# Altium schematic symbol library LPEDT_Parts.SchLib: 54 symbols (part 1 of 2)
Pins are listed as number, name and electrical type; pins without a type are passive.

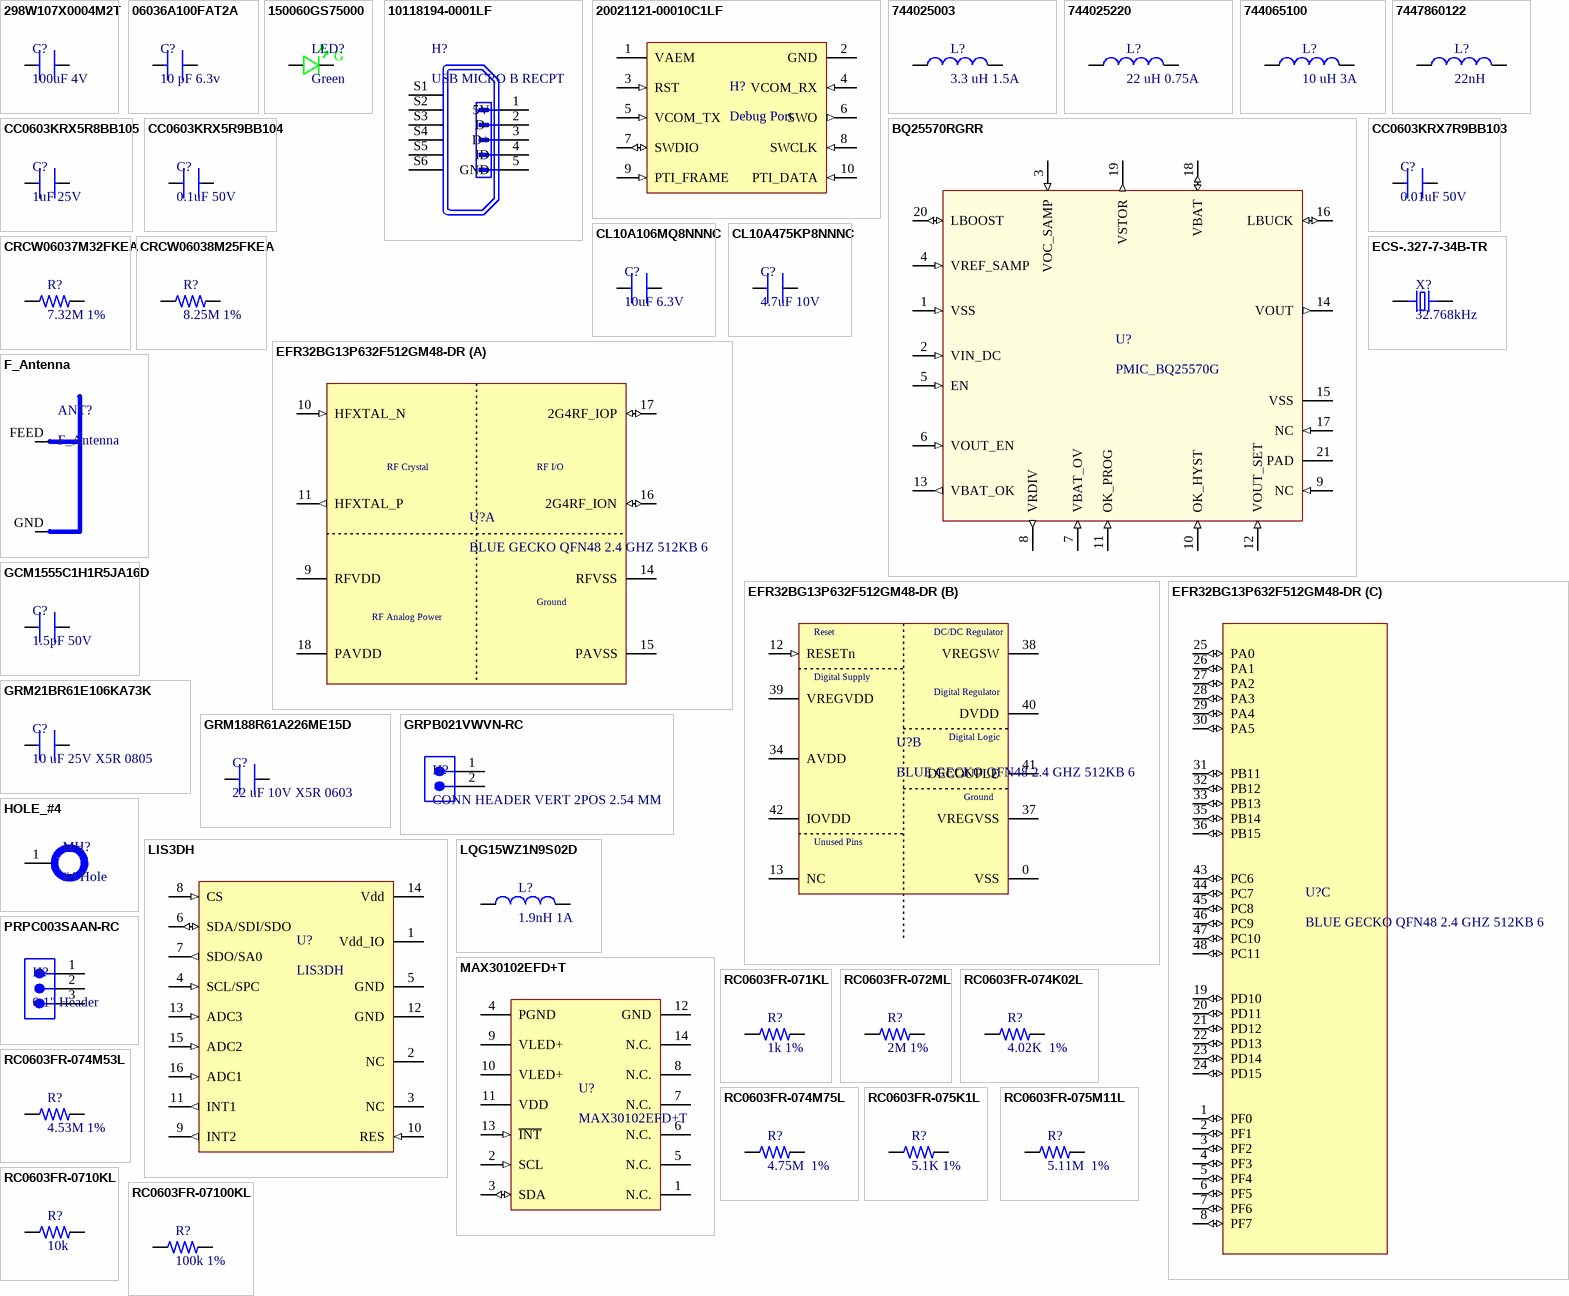
[diagram p0: symbols 298W107X0004M2T to RC0603FR-07100KL]

## 298W107X0004M2T
designator C?, comment 100uF 4V
CAP TANT 100uF / 4V 0603; Manufacturer: Vishay Sprague; Manufacturer Part Number: 298W107X0004M2T; Manufacturer Series: 298W; Dielectric Material: Tantalum; Polarity: Polarized; ESR (Equivalent Series Resistance): 15R; Leakage Current: 110uA; Tolerance  (fill in as +-): 20%; Ripple Current: 41mA; Tan Delta: 0.6; Supplier: Digi-Key; Supplier Part Number: 718-2216-1-ND; RoHS: Yes; Category: Tantalum Capacitors; Stock: 3192; Pricing: 1=1.61, 10=1.273, 50=1.103, 100=0.9544, 500=0.72114, 1000=0.6363 (USD); Mounting Technology: Surface Mount; Pins: 2; Package Shape: Rectangular; Case/Package: 0603; Terminal Finish: Tin; Min Operating Temperature: -55°C; Max Operating Temperature: 125°C; JESD-609 Code: e3; Value: 100uF; Capacitor Type: Tantalum; Package Style: SMTMeter; Packaging: Tape and Reel; Tolerance (fill in as +-): 20%; Rated DC Voltage (URdc): 4V; Series: 298W; Termination: Wraparound; Length: 1.6mm; Width: 0.85mm; Height: 0.9mm; Reach SVHC Compliant: Yes; RoHS Compliant: Yes; ComponentLink1URL: https://datasheet.ciiva.com:443/pdfs/VipMasterIC/IC/VISH/VISH-S-A0008609316/VISH-S-A0008609316-1.pdf?src-supplier=IHS+Markit; ComponentLink1Description: https://datasheet.ciiva.com:443/pdfs/VipMasterIC/IC/VISH/VISH-S-A0008609316/VISH-S-A0008609316-1.pdf?src-supplier=IHS+Markit; ComponentLink2URL: http://www.vishay.com/docs/40169/typperfchar298dwtrl8.pdf?src-supplier=Digi-Key; ComponentLink2Description: http://www.vishay.com/docs/40169/typperfchar298dwtrl8.pdf?src-supplier=Digi-Key; ComponentLink3URL: http://www.vishay.com/docs/40065/298d298w.pdf?src-supplier=Digi-Key; ComponentLink3Description: http://www.vishay.com/docs/40065/298d298w.pdf?src-supplier=Digi-Key
footprint CAP_0603_1MM (Chip Capacitor, 2-Leads, Body 1.60x0.80mm, IPC Medium Density)
pins: 1, 2

## 06036A100FAT2A
designator C?, comment 10 pF 6.3v
CAP CER 10pF 6.3V 0603; Manufacturer: Kyocera AVX; Manufacturer Part Number: 06036A100FAT2A; Tolerance: 1%; Dielectric: C0G; Supplier: Digi-Key; Supplier Part Number: 478-06036A100FAT2ACT-ND; RoHS: Yes; Category: Ceramic Capacitors; Stock: 26845; Pricing: 1=0.16, 10=0.112, 50=0.0636, 100=0.0526, 500=0.0369, 1000=0.03054 (USD); Mounting Technology: Surface Mount; Case/Package: 0603; Min Operating Temperature: -55°C; Max Operating Temperature: 125°C; Value: 10pF; Package Quantity: 4000; Packaging: Tape and Reel; Voltage Rating (DC): 6.3V; Construction: Flat; Length: 1.6mm; Depth: 0.81mm; RoHS Compliant: Yes; ComponentLink1URL: http://www.mouser.com/ds/2/40/C0GNP0-Dielectric-951274.pdf?src-supplier=Mouser; ComponentLink1Description: http://www.mouser.com/ds/2/40/C0GNP0-Dielectric-951274.pdf?src-supplier=Mouser
footprint CAP_0603_1MM (Chip Capacitor, 2-Leads, Body 1.60x0.80mm, IPC Medium Density)
pins: 1, 2

## 150060GS75000
designator LED?, comment Green
LED, 0603, GREEN, 430MCD, 520NM; Manufacturer: Wurth Electronics; Manufacturer Part Number: 150060GS75000; Dynamic Catalog: 0603 Rectangle with Flat Top Chip LEDs; 3D Model: SMCW_0603.igs / SMCW_0603.stp / SMCW_0603.wrl; Wavelength - Peak: 515nm; Voltage - Forward (Vf) (Typ): 3.2V; Current - Test: 20mA; Viewing Angle: 140°; Lens Type: Clear; Lens Style/Size: Rectangle with Flat Top, 1.1mm x 0.7mm; Other Names: 732-4971-2; Supplier 1: Digi-Key; Stock 1: 34964; Pricing 1: 1=0.14, 50=0.129, 100=0.11, 500=0.095 (USD); Standard Package: 4,000; Category: Optoelectronics; Family: LED Indication - Discrete; Series: WL-SMCW; Packaging: Tape & Reel (TR); Color: Green; Wavelength - Dominant: 520nm; Millicandela Rating: 430mcd; Package / Case: 0603 (1608 Metric); Size / Dimension: 1.60mm L x 0.80mm W; Height: 0.70mm; Mounting Type: Surface Mount; Online Catalog: 0603 Rectangle with Flat Top Chip LEDs; ComponentLink1URL: https://katalog.we-online.de/led/datasheet/150060GS75000.pdf?src-supplier=Digi-Key; ComponentLink1Description: https://katalog.we-online.de/led/datasheet/150060GS75000.pdf?src-supplier=Digi-Key; ComponentLink2URL: http://www.produktinfo.conrad.com/datenblaetter/750000-774999/759427-da-01-en-CHIPLED_0603_W_KL_GRUEN_150060GS75000.pdf?src-supplier=Conrad; ComponentLink2Description: http://www.produktinfo.conrad.com/datenblaetter/750000-774999/759427-da-01-en-CHIPLED_0603_W_KL_GRUEN_150060GS75000.pdf?src-supplier=Conrad; Supplier Part Number 1: 732-4971-1-ND
footprint LED_0603_GRN_WL-SMCW (SODFL, 2-Leads, Body 0.80x1.80mm, IPC Medium Density)
pins: A, C
text: G

## 10118194-0001LF
designator H?, comment USB MICRO B RECPT
USB - micro B USB 2.0 Receptacle Connector 5 Position Surface Mount, Right Angle; Through Hole; Manufacturer: Amphenol FCI; Manufacturer Part Number: 10118194-0001LF; Number of Terminals/Pins: 5; Current Rating: 1.8A; Connector Type: USB,Receptacle; Insulation Resistance: 1GR; Number of Ports: 1; Max Voltage Rating (AC): 100V; Pitch: 0.65mm; Supplier 1: Digi-Key; RoHS: Yes; Category: USB Connectors; Stock 1: 87961; Pricing 1: 1=0.48000, 10=0.45100, 25=0.38680, 50=0.32860, 100=0.31580, 250=0.28360, 500=0.27070 (USD); Mount: Surface Mount,Horizontal; Contact Material: Copper Alloy; Contact Plating: Gold; Housing Material: Polymer; Color: Black; Min Operating Temperature: -55°C; Max Operating Temperature: 85°C; Package Quantity: 9600; Packaging: Tape and Reel; Gender: Receptacle; Number of Contacts: 5; Termination: Solder; Orientation: Right Angle; Features: Shielded; Length: 8.05mm; Depth: 5mm; Radiation Hardening: No; Lead Free: Lead Free; Flammability Rating: UL94 V-0; ComponentLink1URL: https://datasheet.ciiva.com/4598/10118194ac-197217-4598807.pdf?src-supplier=Mouser; ComponentLink1Description: https://datasheet.ciiva.com/4598/10118194ac-197217-4598807.pdf?src-supplier=Mouser; ComponentLink2URL: https://datasheet.ciiva.com/26945/getdatasheetpartid-418619-26945695.pdf?src-supplier=Verical; ComponentLink2Description: https://datasheet.ciiva.com/26945/getdatasheetpartid-418619-26945695.pdf?src-supplier=Verical; ComponentLink3URL: https://datasheet.ciiva.com/851/10118194-851110.pdf?src-supplier=Digi-Key; ComponentLink3Description: https://datasheet.ciiva.com/851/10118194-851110.pdf?src-supplier=Digi-Key; ComponentLink4URL: https://datasheet.ciiva.com/851/10118194-851111.pdf?src-supplier=Digi-Key; ComponentLink4Description: https://datasheet.ciiva.com/851/10118194-851111.pdf?src-supplier=Digi-Key; Supplier Part Number 1: 609-4618-6-ND
footprint MICROUSB_AMPHENOL_10118194-0001LF
pins: 1 5V (power), 2 D-, 3 D+, 4 ID, 5 GND, S1, S2, S3, S4, S5, S6

## 20021121-00010C1LF
designator H?, comment Debug Port
CONN HEADER SMD 10POS 1.27MM. Connector Header Surface Mount 10 position 0.050"; Manufacturer: Amphenol ICC / FCI; Manufacturer Part Number: 20021121-00010C1LF; Supplier 1: Digi-Key; RoHS: No; Category: Headers and Wire Housings
footprint Amphenol_20021121_0
pins: 1 VAEM (power) "Target Advanced Energy Monitor Voltage Net", 2 GND (power) "Target Ground", 3 RST (in) "Target Reset (Active Low)", 4 VCOM_RX (in) "Target Pass-through UART/Virtual COM Port Receive", 5 VCOM_TX (in) "Target Pass-through UART/Virtual COM Port Transmit", 6 SWO (out) "Target Serial Wire Output", 7 SWDIO (io) "Target Serial Wire Data Input/Output", 8 SWCLK (in) "Target Serial Wire Clock", 9 PTI_FRAME (in) "Target Packet Trace Interface Frame Signal", 10 PTI_DATA (in) "Target Packet Trace Interface Data Signal"

## 744025003
designator L?, comment 3.3 uH 1.5A
IND FER 3.3uH 20% SMD; Manufacturer: Wurth Electronics; Manufacturer Part Number: 744025003; Core Material: Ferrite; Channels: 1; Case/Size Code: 1111; DC Resistance (DCR): 101mR; Inductor Application: POWER INDUCTOR; Inductor Type: GENERAL PURPOSE INDUCTOR; Self Resonant Frequency: 100MHz; Shape/Size Description: RECTANGULAR PACKAGE; Shielding: Shielded; Test Frequency: 100kHz; Package Height: 2.8mm; Supplier: Digi-Key; Supplier Part Number: 732-2614-1-ND; RoHS: Yes; Category: Fixed Inductors; Stock: 831; Pricing: 1=1.64, 10=1.578, 50=1.45, 100=1.205, 250=1.088 (USD); Pins: 2; Terminal Finish: Copper; Min Operating Temperature: -40°C; Max Operating Temperature: 125°C; Tolerance: 20%; JESD-609 Code: e2; Package Style: SMTMeter; Surface Mount: Yes; Construction: Chip; Inductance-Nom (L): 3.3uH; Packaging: Tape and Reel; Max Current Rating: 1.5A; Terminal Placement: Dual Ended; Termination: Wraparound; Package Length: 2.8mm; Package Width: 2.8mm; Reach SVHC Compliant: Yes; RoHS Compliant: Yes; ComponentLink1URL: https://datasheet.ciiva.com:443/pdfs/VipMasterIC/IC/MIDC/MIDC-S-A0002801266/MIDC-S-A0002801266-1.pdf?src-supplier=IHS+Markit; ComponentLink1Description: https://datasheet.ciiva.com:443/pdfs/VipMasterIC/IC/MIDC/MIDC-S-A0002801266/MIDC-S-A0002801266-1.pdf?src-supplier=IHS+Markit; ComponentLink2URL: https://datasheet.ciiva.com/4954/744025003-88791-4954796.pdf?src-supplier=Mouser; ComponentLink2Description: https://datasheet.ciiva.com/4954/744025003-88791-4954796.pdf?src-supplier=Mouser; ComponentLink3URL: https://datasheet.ciiva.com/1060/744025003-1060566.pdf?src-supplier=Digi-Key; ComponentLink3Description: https://datasheet.ciiva.com/1060/744025003-1060566.pdf?src-supplier=Digi-Key; ComponentLink4URL: https://datasheet.ciiva.com/11803/0900766b80f886b5-11803594.pdf?src-supplier=Rs; ComponentLink4Description: https://datasheet.ciiva.com/11803/0900766b80f886b5-11803594.pdf?src-supplier=Rs; ComponentLink5URL: https://datasheet.ciiva.com/1060/744025003-1060567.pdf?src-supplier=Digi-Key; ComponentLink5Description: https://datasheet.ciiva.com/1060/744025003-1060567.pdf?src-supplier=Digi-Key; ComponentLink6URL: https://datasheet.ciiva.com/1060/744025003-1060568.pdf?src-supplier=Digi-Key; ComponentLink6Description: https://datasheet.ciiva.com/1060/744025003-1060568.pdf?src-supplier=Digi-Key; ComponentLink7URL: https://datasheet.ciiva.com/14123/744025003-eng-tds-14123829.pdf?src-supplier=Distrelec; ComponentLink7Description: https://datasheet.ciiva.com/14123/744025003-eng-tds-14123829.pdf?src-supplier=Distrelec
footprint IND_2828x30 (Precision Wire Wound Inductor, 2-Leads, Body 2.80x2.80mm, IPC Medium Density)
pins: 1, 2

## 744025220
designator L?, comment 22 uH 0.75A
IND FER 22uH 20% SMD; Manufacturer: Wurth Electronics; Manufacturer Part Number: 744025220; Core Material: Ferrite; DC Resistance (DCR): 575mR; Inductor Application: RF INDUCTOR; Inductor Type: GENERAL PURPOSE INDUCTOR; Channels: 1; Max Current Rating: 500mA; Self Resonant Frequency: 23MHz; Shape/Size Description: RECTANGULAR PACKAGE; Shielding: Unshielded; Test Frequency: 100kHz; Case/Size Code: 1111; Package Length: 2.8mm; Supplier: Digi-Key; Supplier Part Number: 732-2619-1-ND; RoHS: Yes; Category: Fixed Inductors; Stock: 10497; Pricing: 1=1.64, 10=1.578, 50=1.45, 100=1.205, 250=1.088 (USD); Pins: 2; Terminal Finish: Copper; Min Operating Temperature: -40°C; Max Operating Temperature: 125°C; Tolerance: 20%; Construction: Chip; Inductance-Nom (L): 22uH; Package Style: SMTMeter; Packaging: Tape and Reel; Surface Mount: Yes; Terminal Placement: Dual Ended; Termination: Wraparound; JESD-609 Code: e2; Package Height: 2.8mm; Package Width: 2.8mm; Reach SVHC Compliant: Yes; RoHS Compliant: Yes; ComponentLink1URL: https://datasheet.ciiva.com:443/pdfs/VipMasterIC/IC/MIDC/MIDC-S-A0002801275/MIDC-S-A0002801275-1.pdf?src-supplier=IHS+Markit; ComponentLink1Description: https://datasheet.ciiva.com:443/pdfs/VipMasterIC/IC/MIDC/MIDC-S-A0002801275/MIDC-S-A0002801275-1.pdf?src-supplier=IHS+Markit; ComponentLink2URL: https://datasheet.ciiva.com/6697/744025220-6697526.pdf?src-supplier=Digi-Key; ComponentLink2Description: https://datasheet.ciiva.com/6697/744025220-6697526.pdf?src-supplier=Digi-Key; ComponentLink3URL: https://datasheet.ciiva.com/4954/744025220-66606-4954805.pdf?src-supplier=Mouser; ComponentLink3Description: https://datasheet.ciiva.com/4954/744025220-66606-4954805.pdf?src-supplier=Mouser; ComponentLink4URL: https://datasheet.ciiva.com/11803/0900766b80f886ba-11803595.pdf?src-supplier=Rs; ComponentLink4Description: https://datasheet.ciiva.com/11803/0900766b80f886ba-11803595.pdf?src-supplier=Rs; ComponentLink5URL: https://datasheet.ciiva.com/6697/744025220-6697527.pdf?src-supplier=Digi-Key; ComponentLink5Description: https://datasheet.ciiva.com/6697/744025220-6697527.pdf?src-supplier=Digi-Key; ComponentLink6URL: https://datasheet.ciiva.com/48691/001087107-da-01-ml-we-tpc-smd-speicherdrossel-7440252-de-en-48691031.pdf?src-supplier=Conrad; ComponentLink6Description: https://datasheet.ciiva.com/48691/001087107-da-01-ml-we-tpc-smd-speicherdrossel-7440252-de-en-48691031.pdf?src-supplier=Conrad
footprint IND_2828x30 (Precision Wire Wound Inductor, 2-Leads, Body 2.80x2.80mm, IPC Medium Density)
pins: 1, 2

## 744065100
designator L?, comment 10 uH 3A
IND FER 10uH 20% SMD; Manufacturer: Wurth Electronics; Manufacturer Part Number: 744065100; Core Material: Ferrite; Tolerance: 30%; Case/Size Code: 3939; DC Resistance (DCR): 53mR; Inductor Application: POWER INDUCTOR; Inductor Type: GENERAL PURPOSE INDUCTOR; Channels: 1; Shape/Size Description: RECTANGULAR PACKAGE; Shielding: Unshielded; Test Frequency: 100kHz; Self Resonant Frequency: 25MHz; Package Height: 2.8mm; Package Length: 10mm; Supplier: Digi-Key; Supplier Part Number: 732-1060-1-ND; RoHS: Yes; Category: Fixed Inductors; Stock: 6976; Pricing: 1=1.87, 10=1.815, 50=1.588, 100=1.452, 500=1.362 (USD); Pins: 2; Terminal Finish: Copper; Min Operating Temperature: -40°C; Max Operating Temperature: 115°C; Inductance-Nom (L): 10uH; Surface Mount: Yes; Terminal Placement: Dual Ended; Termination: One Surface; Construction: Chip; Package Style: SMTMeter; Packaging: Tape and Reel; Max Current Rating: 3A; JESD-609 Code: e1; Package Width: 10mm; Reach SVHC Compliant: Yes; RoHS Compliant: Yes; ComponentLink1URL: https://datasheet.ciiva.com:443/pdfs/VipMasterIC/IC/MIDC/MIDC-S-A0004023785/MIDC-S-A0004023813-1.pdf?src-supplier=IHS+Markit; ComponentLink1Description: https://datasheet.ciiva.com:443/pdfs/VipMasterIC/IC/MIDC/MIDC-S-A0004023785/MIDC-S-A0004023813-1.pdf?src-supplier=IHS+Markit; ComponentLink2URL: https://datasheet.ciiva.com/6700/744065100-6700129.pdf?src-supplier=Digi-Key; ComponentLink2Description: https://datasheet.ciiva.com/6700/744065100-6700129.pdf?src-supplier=Digi-Key; ComponentLink3URL: https://datasheet.ciiva.com/7892/1735582-7892636.pdf?src-supplier=Element14; ComponentLink3Description: https://datasheet.ciiva.com/7892/1735582-7892636.pdf?src-supplier=Element14; ComponentLink4URL: https://datasheet.ciiva.com/13279/744065100-77259-13279329.pdf?src-supplier=Mouser; ComponentLink4Description: https://datasheet.ciiva.com/13279/744065100-77259-13279329.pdf?src-supplier=Mouser; ComponentLink5URL: https://datasheet.ciiva.com/11800/0900766b80d87d9b-11800272.pdf?src-supplier=Rs; ComponentLink5Description: https://datasheet.ciiva.com/11800/0900766b80d87d9b-11800272.pdf?src-supplier=Rs; ComponentLink6URL: https://datasheet.ciiva.com/6700/744065100-6700125.pdf?src-supplier=Digi-Key; ComponentLink6Description: https://datasheet.ciiva.com/6700/744065100-6700125.pdf?src-supplier=Digi-Key; ComponentLink7URL: https://datasheet.ciiva.com/6700/744065100-6700127.pdf?src-supplier=Digi-Key; ComponentLink7Description: https://datasheet.ciiva.com/6700/744065100-6700127.pdf?src-supplier=Digi-Key
footprint IND_100X30
pins: 1, 2

## 7447860122
designator L?, comment 22nH
IND CER  22nH, 1.6Ghz, 0.3A, 0603 Rohs Compliant: Yes; Manufacturer: Wurth Electronics; Manufacturer Part Number: 7447860122; Supplier: Digi-Key; Supplier Part Number: 732-7447860122CT-ND; RoHS: No; Stock: 16578; Pricing: 1=0.1, 10=0.058, 50=0.054, 100=0.05, 1000=0.046 (USD); RoHS Compliant: Yes
footprint IND_1608X10N (Chip Inductor, 2-Leads, Body 1.60x0.80mm, IPC Medium Density)
pins: 1, 2

## BQ25570RGRR
designator U?, comment PMIC_BQ25570G
IC ENERGY HARV CTRLR BATT 20VQFN; Manufacturer: Texas Instruments; Manufacturer Part Number: BQ25570RGRR; Package Body Material: Plastic; Adjustable Threshold: Yes; Throw Configuration: POWER SUPPLY SUPPORT CIRCUIT; Number of Channels: 1; Max Supply Voltage: 5.1V; Min Supply Voltage: 100mV; Supplier: Digi-Key; Supplier Part Number: 296-39934-1-ND; RoHS: Yes; Category: Battery Management; Stock: 13223; Pricing: 1=7.11, 10=6.421, 25=6.1224, 100=5.3161, 250=5.07716, 500=4.62918, 1000=4.03187 (USD); Case/Package: HVQCCN; Pins: 20; Package Shape: Square; Terminal Finish: Nickel; Min Operating Temperature: -40°C; Max Operating Temperature: 85°C; JESD-609 Code: e4; Moisture Sensitivity Level: 2; Channels: 1; Package Style: CHIP CARRIER, HEAT SINK/SLUG, VERY THIN PROFILEMeter; Peak Reflow Temperature (Cel): 260°C; Surface Mount: Yes; Terminal Form: No Lead; Terminal Position: QUAD; Length: 3.5mm; Width: 3.5mm; Height - Seated (Max): 1mm; Terminal Pitch: 0.5mm; Temperature Grade: INDUSTRIAL; Reach SVHC Compliant: Yes; RoHS Compliant: Yes; ComponentLink1URL: https://www.ti.com:443/lit/ds/symlink/bq25570.pdf?src-supplier=IHS+Markit; ComponentLink1Description: https://www.ti.com:443/lit/ds/symlink/bq25570.pdf?src-supplier=IHS+Markit; ComponentLink2URL: https://datasheet.ciiva.com/29590/bq25570-29590060.pdf?src-supplier=Digi-Key; ComponentLink2Description: https://datasheet.ciiva.com/29590/bq25570-29590060.pdf?src-supplier=Digi-Key
footprint 20_QFN_PMIC
pins: 1 VSS (in) "Power ground for the boost charger.", 2 VIN_DC (in) "DC voltage input from energy harvesting source. Connect at least a 4.7 μF capacitor as close as possible between this pin and pin 1.", 3 VOC_SAMP (in) "Sampling pin for MPPT network. Connect to VSTOR to sample at 80% of input source open circuit voltage. Connect to GND for 50% or connect to the mid-point of external resistor divider between VIN_DC and GND.", 4 VREF_SAMP (in) "Connect a 0.01-μF low-leakage capacitor from this pin to GND to store the voltage to which VIN_DC will be regulated. This voltage is provided by the MPPT sample circuit.", 5 EN (in) "Active low digital programming input for enabling/disabling the IC. Connect to GND to enable the IC.", 6 VOUT_EN (in) "Active high digital programming input for enabling/disabling the buck converter. Connect to VSTOR to enable the buck converter.", 7 VBAT_OV (in) "Connect to the mid-point of external resistor divider between VRDIV and GND for setting the VBAT overvoltage threshold.", 8 VRDIV (out) "Connect high side of resistor divider networks to this biasing voltage.", 9 NC (in) "Connect to ground using the IC's PowerPAD™.", 10 OK_HYST (in) "Connect to the mid-point of external resistor divider between VRDIV and GND for setting the VBAT_OK hystersis threshold. If not used, connect this pin to GND.", 11 OK_PROG (in) "Connect to the mid-point of external resistor divider between VRDIV and GND for setting the VBAT_OK threshold. If not used, connect this pin to GND.", 12 VOUT_SET (in) "Connect to the mid-point of external resistor divider between VRDIV and GND for setting the VOUT regulation set point.", 13 VBAT_OK (out) "Digital output for battery good indicator. Internally referenced to the VSTOR voltage. Leave floating if not used.", 14 VOUT (out) "Buck converter output. Connect at least 22 μF output capacitor between this pin and pin 15 (VSS).", 15 VSS "Power ground for the buck converter and analog/signal ground for the resistor dividers and VREF_SAMP capacitor.", 16 LBUCK (io) "Inductor connection for the buck converter switching node. Connect at least a 4.7 μH inductor between this pin and pin 14 (VOUT).", 17 NC (in) "Connect to ground using the IC's PowerPAD.", 18 VBAT (io) "Connect a rechargeable storage element with at least 100uF of equivalent capacitance between this pin and either VSS pin.", 19 VSTOR (out) "Connection for the output of the boost charger. Connect at least a 4.7 μF capacitor in parallel with a 0.1 μF capacitor as close as possible to between this pin and pin 1 (VSS).", 20 LBOOST (io) "Inductor connection for the boost charger switching node. Connect a 22 μH inductor between this pin and pin 2 (VIN_DC).", 21 PAD

## CC0603KRX5R8BB105
designator C?, comment 1uF 25V
CAP CER 1uF 25V X5R 0603; Manufacturer: Yageo; Manufacturer Part Number: CC0603KRX5R8BB105; Dielectric Material: Ceramic; Multilayer: Yes; Tolerance  (fill in as +-): 10%; Supplier: Digi-Key; Supplier Part Number: 311-1445-1-ND; RoHS: Yes; Category: Ceramic Capacitors; Stock: 2764440; Pricing: 1=0.1, 10=0.074, 50=0.0418, 100=0.0346, 500=0.02428, 1000=0.0201 (USD); Mounting Technology: Surface Mount; Pins: 2; Package Shape: Rectangular; Case/Package: 0603; Terminal Finish: Nickel; Min Operating Temperature: -55°C; Max Operating Temperature: 85°C; JESD-609 Code: e3; Value: 1uF; Capacitor Type: Ceramic; Package Style: SMTMeter; Packaging: Tape and Reel; Tolerance (fill in as +-): 10%; Rated DC Voltage (URdc): 25V; Temperature Characteristics Code: X5R; Termination: Wraparound; Length: 1.6mm; Width: 0.8mm; Height: 0.8mm; Reach SVHC Compliant: Yes; RoHS Compliant: Yes; ComponentLink1URL: https://datasheet.ciiva.com:443/pdfs/VipMasterIC/IC/YAGO/YAGO-S-A0006851646/YAGO-S-A0006851646-1.pdf?src-supplier=IHS+Markit; ComponentLink1Description: https://datasheet.ciiva.com:443/pdfs/VipMasterIC/IC/YAGO/YAGO-S-A0006851646/YAGO-S-A0006851646-1.pdf?src-supplier=IHS+Markit; ComponentLink2URL: https://datasheet.ciiva.com/7978/1525783-7978171.pdf?src-supplier=Element14; ComponentLink2Description: https://datasheet.ciiva.com/7978/1525783-7978171.pdf?src-supplier=Element14; ComponentLink3URL: https://datasheet.ciiva.com/11586/upy-gphc-x5r-4v-to-50v-12-11586318.pdf?src-supplier=Avnet; ComponentLink3Description: https://datasheet.ciiva.com/11586/upy-gphc-x5r-4v-to-50v-12-11586318.pdf?src-supplier=Avnet; ComponentLink4URL: https://datasheet.ciiva.com/176/mlccorderingcode-176786.pdf?src-supplier=Digi-Key; ComponentLink4Description: https://datasheet.ciiva.com/176/mlccorderingcode-176786.pdf?src-supplier=Digi-Key; ComponentLink5URL: https://datasheet.ciiva.com/176/mlccorderingcode-176785.pdf?src-supplier=Digi-Key; ComponentLink5Description: https://datasheet.ciiva.com/176/mlccorderingcode-176785.pdf?src-supplier=Digi-Key; ComponentLink6URL: https://datasheet.ciiva.com/176/mlccorderingcode-176787.pdf?src-supplier=Digi-Key; ComponentLink6Description: https://datasheet.ciiva.com/176/mlccorderingcode-176787.pdf?src-supplier=Digi-Key
footprint CAP_0603_1MM (Chip Capacitor, 2-Leads, Body 1.60x0.80mm, IPC Medium Density)
pins: 1, 2

## CC0603KRX5R9BB104
designator C?, comment 0.1uF 50V
CAP CER 0.1UF 50V X5R 0603; Manufacturer: Yageo; Manufacturer Part Number: CC0603KRX5R9BB104; Value: 100nF; Tolerance: 10%; Supplier: Digi-Key; Supplier Part Number: 311-4046-1-ND; RoHS: Yes; Category: Ceramic Capacitors; Stock: 45165; Pricing: 1=0.1, 10=0.052, 50=0.0282, 100=0.0231, 500=0.01648, 1000=0.01294 (USD); Mounting Technology: Surface Mount; Case/Package: 0603; Case Code (Imperial): 0603; Case Code (Metric): 1608; Weight: 7.1E-05oz; Min Operating Temperature: -55°C; Max Operating Temperature: 85°C; Packaging: Tape and Reel; Voltage Rating: 50V; Dielectric: X5R; Termination: SMD/SMT; Voltage Rating (DC): 50V; Package Quantity: 4000; Series: CC; Length: 0.063inch; Width: 0.031inch; Thickness: 0.035inch; Lead Free: Lead Free; Halogen Free: Halogen Free; ComponentLink1URL: http://www.mouser.com/ds/2/447/Yageo_UPY-GP_NP0_16V-to-50V_9-358835.pdf?src-supplier=Mouser; ComponentLink1Description: http://www.mouser.com/ds/2/447/Yageo_UPY-GP_NP0_16V-to-50V_9-358835.pdf?src-supplier=Mouser; ComponentLink2URL: http://www.yageo.com/exep/pages/download/literatures/ProductSelectionGuide%202014_Final_2.pdf?src-supplier=Digi-Key; ComponentLink2Description: http://www.yageo.com/exep/pages/download/literatures/ProductSelectionGuide%202014_Final_2.pdf?src-supplier=Digi-Key; ComponentLink3URL: https://datasheet.octopart.com/CC0603KRX5R9BB104-Yageo-datasheet-158238148.pdf?src-supplier=Newark; ComponentLink3Description: https://datasheet.octopart.com/CC0603KRX5R9BB104-Yageo-datasheet-158238148.pdf?src-supplier=Newark; ComponentLink4URL: https://www.yageo.com/upload/media/product/productsearch/datasheet/mlcc/UPY-GPHC_X5R_4V-to-50V_26.pdf?src-supplier=Digi-Key; ComponentLink4Description: https://www.yageo.com/upload/media/product/productsearch/datasheet/mlcc/UPY-GPHC_X5R_4V-to-50V_26.pdf?src-supplier=Digi-Key; ComponentLink5URL: https://datasheet.octopart.com/CC0603KRX5R9BB104-Yageo-datasheet-137875056.pdf?src-supplier=Future+Electronics; ComponentLink5Description: https://datasheet.octopart.com/CC0603KRX5R9BB104-Yageo-datasheet-137875056.pdf?src-supplier=Future+Electronics
footprint CAP_0603_1MM (Chip Capacitor, 2-Leads, Body 1.60x0.80mm, IPC Medium Density)
pins: 1, 2

## CC0603KRX7R9BB103
designator C?, comment 0.01uF 50V
CAP CER 0.01uF 50V X7R 0603; Manufacturer: Yageo; Manufacturer Part Number: CC0603KRX7R9BB103; Dielectric Material: Ceramic; Value: 10nF; Multilayer: Yes; Tolerance  (fill in as +-): 10%; Supplier: Digi-Key; Supplier Part Number: 311-1085-1-ND; RoHS: Yes; Category: Ceramic Capacitors; Stock: 5912727; Pricing: 1=0.1, 10=0.032, 50=0.0176, 100=0.0144, 500=0.01026, 1000=0.00805 (USD); Mounting Technology: Surface Mount; Pins: 2; Package Shape: Rectangular; Case/Package: 0603; Terminal Finish: Nickel; Min Operating Temperature: -55°C; Max Operating Temperature: 125°C; JESD-609 Code: e3; Capacitor Type: Ceramic; Package Style: SMTMeter; Packaging: Tape and Reel; Tolerance (fill in as +-): 10%; Rated DC Voltage (URdc): 50V; Temperature Characteristics Code: X7R; Termination: Wraparound; Length: 1.6mm; Width: 0.8mm; Height: 0.8mm; Reach SVHC Compliant: Yes; RoHS Compliant: Yes; ComponentLink1URL: https://datasheet.ciiva.com:443/pdfs/VipMasterIC/IC/YAGO/YAGO-S-A0003557223/YAGO-S-A0003557223-1.pdf?src-supplier=IHS+Markit; ComponentLink1Description: https://datasheet.ciiva.com:443/pdfs/VipMasterIC/IC/YAGO/YAGO-S-A0003557223/YAGO-S-A0003557223-1.pdf?src-supplier=IHS+Markit; ComponentLink2URL: https://datasheet.ciiva.com/28450/1489800-28450619.pdf?src-supplier=Element14; ComponentLink2Description: https://datasheet.ciiva.com/28450/1489800-28450619.pdf?src-supplier=Element14; ComponentLink3URL: https://datasheet.ciiva.com/176/mlccorderingcode-176551.pdf?src-supplier=Digi-Key; ComponentLink3Description: https://datasheet.ciiva.com/176/mlccorderingcode-176551.pdf?src-supplier=Digi-Key; ComponentLink4URL: https://datasheet.ciiva.com/176/mlccorderingcode-176550.pdf?src-supplier=Digi-Key; ComponentLink4Description: https://datasheet.ciiva.com/176/mlccorderingcode-176550.pdf?src-supplier=Digi-Key; ComponentLink5URL: https://datasheet.ciiva.com/13389/upy-gphc-x7r-6-3v-to-50v-8-13389991.pdf?src-supplier=Mouser; ComponentLink5Description: https://datasheet.ciiva.com/13389/upy-gphc-x7r-6-3v-to-50v-8-13389991.pdf?src-supplier=Mouser
footprint CAP_0603_1MM (Chip Capacitor, 2-Leads, Body 1.60x0.80mm, IPC Medium Density)
pins: 1, 2

## CL10A106MQ8NNNC
designator C?, comment 10uF 6.3V
CAP CER 10UF 6.3V X5R 0603; Manufacturer: Samsung; Manufacturer Part Number: CL10A106MQ8NNNC; Tolerance: 20%; Supplier: Digi-Key; Supplier Part Number: 1276-1119-1-ND; RoHS: Yes; Category: Ceramic Capacitors; Stock: 2041935; Pricing: 1=0.11, 10=0.083, 50=0.0452, 100=0.0369, 500=0.02638, 1000=0.02072 (USD); Mounting Technology: Surface Mount; Case/Package: 0603; Case Code (Metric): 1608; Case Code (Imperial): 0603; Min Operating Temperature: -55°C; Max Operating Temperature: 85°C; Packaging: Tape and Reel; Value: 10uF; Voltage Rating: 6.3V; Dielectric: X5R; Voltage: 6.3V; Series: CL; Construction: Flat; Length: 1.6mm; Height: 0.8mm; Depth: 0.8mm; Radiation Hardening: No; RoHS Compliant: Yes; ComponentLink1URL: https://datasheet.ciiva.com/25798/cl10a106mq8nnnc-25798320.pdf?src-supplier=Digi-Key; ComponentLink1Description: https://datasheet.ciiva.com/25798/cl10a106mq8nnnc-25798320.pdf?src-supplier=Digi-Key; ComponentLink2URL: https://datasheet.ciiva.com/26838/getdatasheetpartid-357557-26838347.pdf?src-supplier=Verical; ComponentLink2Description: https://datasheet.ciiva.com/26838/getdatasheetpartid-357557-26838347.pdf?src-supplier=Verical; ComponentLink3URL: https://datasheet.ciiva.com/16437/cl05b104kq5nnnc-16437327.pdf?src-supplier=Future+Electronics; ComponentLink3Description: https://datasheet.ciiva.com/16437/cl05b104kq5nnnc-16437327.pdf?src-supplier=Future+Electronics
footprint CAP_0603_1MM (Chip Capacitor, 2-Leads, Body 1.60x0.80mm, IPC Medium Density)
pins: 1, 2

## CL10A475KP8NNNC
designator C?, comment 4.7uF 10V
CAP CER 4.7UF 10V X5R 0603; Manufacturer: Samsung; Manufacturer Part Number: CL10A475KP8NNNC; Material: 4241ConductorMaterial; Tolerance: 10%; Supplier: Digi-Key; Supplier Part Number: 1276-1044-1-ND; RoHS: Yes; Category: Ceramic Capacitors; Stock: 4678169; Pricing: 1=0.1, 10=0.043, 50=0.0234, 100=0.0192, 500=0.01368, 1000=0.01075 (USD); Mounting Technology: Surface Mount; Case/Package: 0603; Case Code (Metric): 1608; Case Code (Imperial): 0603; Min Operating Temperature: -55°C; Max Operating Temperature: 85°C; Package Quantity: 1; Packaging: Tape and Reel; Value: 4.7uF; Voltage Rating: 10V; Dielectric: X5R; Series: CL; Construction: Flat; Voltage Rating (DC): 10V; Length: 1.6mm; Width: 0.031inch; Height: 0.8mm; Thickness: 0.035inch; Depth: 0.8mm; Radiation Hardening: No; RoHS Compliant: Yes; ComponentLink1URL: https://datasheet.ciiva.com/25797/cl10a475kp8nnnc-25797520.pdf?src-supplier=Digi-Key; ComponentLink1Description: https://datasheet.ciiva.com/25797/cl10a475kp8nnnc-25797520.pdf?src-supplier=Digi-Key; ComponentLink2URL: https://datasheet.ciiva.com/26838/getdatasheetpartid-358676-26838384.pdf?src-supplier=Verical; ComponentLink2Description: https://datasheet.ciiva.com/26838/getdatasheetpartid-358676-26838384.pdf?src-supplier=Verical; ComponentLink3URL: https://datasheet.ciiva.com/16318/cl05b104kq5nnnc-16318245.pdf?src-supplier=Future+Electronics; ComponentLink3Description: https://datasheet.ciiva.com/16318/cl05b104kq5nnnc-16318245.pdf?src-supplier=Future+Electronics
footprint CAP_0603_1MM (Chip Capacitor, 2-Leads, Body 1.60x0.80mm, IPC Medium Density)
pins: 1, 2

## CRCW06037M32FKEA
designator R?, comment 7.32M 1%
RES SMD 7.32M OHM 1% 1/10W 0603; Manufacturer: Vishay; Manufacturer Part Number: CRCW06037M32FKEA; Power: 100mW; Rated Temperature: 70°C; Value: 7.32MR; Temperature Coefficient: 100ppm/°C; Working Voltage: 75V; Package Height: 0.45mm; Package Length: 1.55mm; Package Width: 0.85mm; Reference Standard: AEC-Q200; Supplier: Digi-Key; Supplier Part Number: 541-7.32MHCT-ND; RoHS: Yes; Category: Chip SMD Resistors; Stock: 19800; Pricing: 1=0.1, 10=0.026, 50=0.0164, 100=0.0137, 500=0.00936, 1000=0.00808 (USD); Mounting Technology: Surface Mount; Pins: 2; Package Shape: Rectangular; Case/Package: 0603; Terminal Finish: Nickel; Min Operating Temperature: -55°C; Max Operating Temperature: 155°C; Tolerance: 1%; JESD-609 Code: e3; Resistor Type: FIXED RESISTOR; Construction: Chip; Package Style: SMTMeter; Packaging: Tape and Reel; Technology: METAL GLAZE/THICK FILM; Termination: Wraparound; Reach SVHC Compliant: Yes; RoHS Compliant: Yes; ComponentLink1URL: https://datasheet.ciiva.com:443/pdfs/VipMasterIC/IC/VISH/VISH-S-A0007266705/VISH-S-A0007266705-1.pdf?src-supplier=IHS+Markit; ComponentLink1Description: https://datasheet.ciiva.com:443/pdfs/VipMasterIC/IC/VISH/VISH-S-A0007266705/VISH-S-A0007266705-1.pdf?src-supplier=IHS+Markit; ComponentLink2URL: https://datasheet.ciiva.com/5588/dcrcwe3-109170-5588998.pdf?src-supplier=Mouser; ComponentLink2Description: https://datasheet.ciiva.com/5588/dcrcwe3-109170-5588998.pdf?src-supplier=Mouser; ComponentLink3URL: https://datasheet.ciiva.com/22676/1700796-22676479.pdf?src-supplier=Element14; ComponentLink3Description: https://datasheet.ciiva.com/22676/1700796-22676479.pdf?src-supplier=Element14; ComponentLink4URL: https://datasheet.ciiva.com/2525/dcrcwe3-2525464.pdf?src-supplier=Digi-Key; ComponentLink4Description: https://datasheet.ciiva.com/2525/dcrcwe3-2525464.pdf?src-supplier=Digi-Key; ComponentLink5URL: https://datasheet.ciiva.com/2525/dcrcwe3-2525465.pdf?src-supplier=Digi-Key; ComponentLink5Description: https://datasheet.ciiva.com/2525/dcrcwe3-2525465.pdf?src-supplier=Digi-Key; ComponentLink6URL: https://datasheet.ciiva.com/2525/dcrcwe3-2525466.pdf?src-supplier=Digi-Key; ComponentLink6Description: https://datasheet.ciiva.com/2525/dcrcwe3-2525466.pdf?src-supplier=Digi-Key
footprint RES_0603_1608X06 (Chip Resistor, 2-Leads, Body 1.60x0.80mm, IPC Medium Density)
pins: 1, 2

## CRCW06038M25FKEA
designator R?, comment 8.25M 1%
RES SMD 8.25M OHM 1% 1/10W 0603; Manufacturer: Vishay; Manufacturer Part Number: CRCW06038M25FKEA; Power: 100mW; Rated Temperature: 70°C; Value: 8.25MR; Temperature Coefficient: 100ppm/°C; Working Voltage: 75V; Package Height: 0.45mm; Package Length: 1.55mm; Package Width: 0.85mm; Reference Standard: AEC-Q200; Supplier: Digi-Key; Supplier Part Number: 541-8.25MHCT-ND; RoHS: Yes; Category: Chip SMD Resistors; Stock: 15731; Pricing: 1=0.1, 10=0.026, 50=0.0162, 100=0.0136, 500=0.00932, 1000=0.00805 (USD); Mounting Technology: Surface Mount; Pins: 2; Package Shape: Rectangular; Case/Package: 0603; Terminal Finish: Nickel; Min Operating Temperature: -55°C; Max Operating Temperature: 155°C; Tolerance: 1%; JESD-609 Code: e3; Resistor Type: FIXED RESISTOR; Construction: Chip; Package Style: SMTMeter; Packaging: Tape and Reel; Technology: METAL GLAZE/THICK FILM; Termination: Wraparound; Reach SVHC Compliant: Yes; RoHS Compliant: Yes; ComponentLink1URL: https://datasheet.ciiva.com:443/pdfs/VipMasterIC/IC/VISH/VISH-S-A0007266705/VISH-S-A0007266705-1.pdf?src-supplier=IHS+Markit; ComponentLink1Description: https://datasheet.ciiva.com:443/pdfs/VipMasterIC/IC/VISH/VISH-S-A0007266705/VISH-S-A0007266705-1.pdf?src-supplier=IHS+Markit; ComponentLink2URL: https://datasheet.ciiva.com/7748/1697337-7748717.pdf?src-supplier=Element14; ComponentLink2Description: https://datasheet.ciiva.com/7748/1697337-7748717.pdf?src-supplier=Element14; ComponentLink3URL: https://datasheet.ciiva.com/7748/1697337-7748718.pdf?src-supplier=Element14; ComponentLink3Description: https://datasheet.ciiva.com/7748/1697337-7748718.pdf?src-supplier=Element14; ComponentLink4URL: https://datasheet.ciiva.com/2513/dcrcwe3-2513731.pdf?src-supplier=Digi-Key; ComponentLink4Description: https://datasheet.ciiva.com/2513/dcrcwe3-2513731.pdf?src-supplier=Digi-Key; ComponentLink5URL: https://datasheet.ciiva.com/2513/dcrcwe3-2513732.pdf?src-supplier=Digi-Key; ComponentLink5Description: https://datasheet.ciiva.com/2513/dcrcwe3-2513732.pdf?src-supplier=Digi-Key; ComponentLink6URL: https://datasheet.ciiva.com/2513/dcrcwe3-2513733.pdf?src-supplier=Digi-Key; ComponentLink6Description: https://datasheet.ciiva.com/2513/dcrcwe3-2513733.pdf?src-supplier=Digi-Key
footprint RES_0603_1608X06 (Chip Resistor, 2-Leads, Body 1.60x0.80mm, IPC Medium Density)
pins: 1, 2

## ECS-.327-7-34B-TR
designator X?, comment 32.768kHz
32.768kHz Â±20ppm Crystal 7pF 70 kOhms 2-SMD, No Lead; MP: ECS-.327-7-34B-TR; MF: ECS Inc.; Availability: Unavailable; Price: None; Value: *; SnapEDA_Link: https://www.snapeda.com/parts/ECS-.327-7-34B-TR/ECS%20Inc./view-part/55054/?ref=snap; Package: SMD-2 ECS International
footprint XTAL_ECS-.327-7-34B-TR
pins: 1, 2

## EFR32BG13P632F512GM48-DR
designator U?, comment BLUE GECKO QFN48 2.4 GHZ 512KB 6
Blue Gecko BLE Soc QFN48 2.4 G 10 dB BLE/Proprietary 512 kB 64 kB(RAM) 31GPIO; Manufacturer: Silicon Labs; Manufacturer Part Number: EFR32BG13P632F512GM48-DR; Interface: I2C,SPI,IrDA,UART,USART; Frequency: 2.4835GHz; Data Rate: 2Mbps; Sensitivity: -103.3dBm; Memory Size: 64KB; Current - Receiving: 14mA; Current - Transmitting: 134.3mA; Number of GPIO: 16; Supplier: Digi-Key; Supplier Part Number: 336-EFR32BG13P632F512GM48-DRCT-ND; RoHS: Yes; Category: RF Receivers, Transceivers; Stock: 17415; Pricing: 1=7.18, 10=6.577, 25=5.9792, 100=5.3813, 250=4.93284, 500=4.4844, 1000=4.03596 (USD); Mounting Technology: Surface Mount; Case/Package: QFN; Min Operating Temperature: -40°C; Max Operating Temperature: 85°C; Series: EFR32™ Blue Gecko; RoHS Compliant: Yes
footprint QFN_48_7X7 (BLUE GECKO QFN48 2.4GHZ 512KB 6)
part A pins: 9 RFVDD (power) "Radio power supply", 10 HFXTAL_N (in) "High Frequency Crystal input pin.", 11 HFXTAL_P (out) "High Frequency Crystal output pin.", 14 RFVSS (power) "Radio Ground", 15 PAVSS (power) ""Power Amplifier (PA) voltage regulator / VSS"", 16 2G4RF_ION (io) ""2.4 GHz Differential RF input/output, / negative path. This pin should be externally grounded."", 17 2G4RF_IOP (io) ""2.4 GHz Differential RF input/output, / positive path"", 18 PAVDD (power) "Power Amplifier (PA) voltage regulator VDD input"
part B pins: 0 VSS (power) "Ground", 12 RESETn (in) ""Reset input, active low. To apply an external reset source to this pin, it is required to only drive this pin low during / reset, and let the internal pull-up ensure / that reset is released."", 13 NC "No Connect.", 34 AVDD (power) "Analog power supply.", 37 VREGVSS (power) "Voltage regulator VSS", 38 VREGSW (power) "DCDC regulator switching node", 39 VREGVDD (power) "Voltage regulator VDD input", 40 DVDD (power) "Digital power supply.", 41 DECOUPLE (power) "Decouple output for on-chip voltage regulator. An external decoupling capacitor is required at this pin.", 42 IOVDD (power) "Digital IO power supply."
part C pins: 1 PF0 (io) "GPIO (5V)", 2 PF1 (io) "GPIO (5V)", 3 PF2 (io) "GPIO (5V)", 4 PF3 (io) "GPIO (5V)", 5 PF4 (io) "GPIO (5V)", 6 PF5 (io) "GPIO (5V)", 7 PF6 (io) "GPIO (5V)", 8 PF7 (io) "GPIO (5V)", 19 PD10 (io) "GPIO (5V)", 20 PD11 (io) "GPIO (5V)", 21 PD12 (io) "GPIO (5V)", 22 PD13 (io) "GPIO (5V)", 23 PD14 (io) "GPIO (5V)", 24 PD15 (io) "GPIO (5V)", 25 PA0 (io) "GPIO", 26 PA1 (io) "GPIO", 27 PA2 (io) "GPIO (5V)", 28 PA3 (io) "GPIO (5V)", 29 PA4 (io) "GPIO (5V)", 30 PA5 (io) "GPIO (5V)", 31 PB11 (io) "GPIO (5V)", 32 PB12 (io) "GPIO (5V)", 33 PB13 (io) "GPIO (5V)", 35 PB14 (io) "GPIO", 36 PB15 (io) "GPIO", 43 PC6 (io) "GPIO (5V)", 44 PC7 (io) "GPIO (5V)", 45 PC8 (io) "GPIO (5V)", 46 PC9 (io) "GPIO (5V)", 47 PC10 (io) "GPIO (5V)", 48 PC11 (io) "GPIO (5V)"
part A text: RF Crystal; RF I/O; Ground; RF Analog Power
part B text: Reset; DC/DC Regulator; Digital Supply; Digital Regulator; Digital Logic; Ground; Unused Pins

## F_Antenna
designator ANT?
Inverted F Antenna
pins: FEED 23, GND 23

## GCM1555C1H1R5JA16D
designator C?, comment 1.5pF 50V
CAP CER 1.5pF 50V C0G 5% Pad SMD 0402 125C Automotive T/R; Manufacturer: Murata; Manufacturer Part Number: GCM1555C1H1R5JA16D; Supplier 1: Digi-Key; RoHS: Yes; Category: Ceramic Capacitors; Stock 1: 77943; Pricing 1: 1=0.10000, 10=0.04700, 50=0.02580, 100=0.02100, 500=0.01502, 1000=0.01180, 2500=0.01072, 5000=0.00987 (USD); Mount: Surface Mount; Case/Package: 0402; Case Code (Imperial): 0402; Case Code (Metric): 1005; Min Operating Temperature: -55°C; Max Operating Temperature: 125°C; Packaging: Cut Tape; Capacitance: 1.5pF; Tolerance: 5%; Voltage Rating: 50V; Ratings: AEC-Q200; ComponentLink1URL: http://search.murata.co.jp/Ceramy/image/img/A01X/G101/ENG/GCM1555C1H1R5JA16-01.pdf?src-supplier=Digi-Key; ComponentLink1Description: http://search.murata.co.jp/Ceramy/image/img/A01X/G101/ENG/GCM1555C1H1R5JA16-01.pdf?src-supplier=Digi-Key
footprint CAP_0402_1mm (1.00x0.5)
pins: 1, 2

## GRM21BR61E106KA73K
designator C?, comment 10 uF 25V X5R 0805
CAP CER 10UF 25V X5R 0805; Manufacturer: Murata; Manufacturer Part Number: GRM21BR61E106KA73K; Dielectric Material: Ceramic; Multilayer: Yes; Tolerance  (fill in as +-): 10%; Supplier: Digi-Key; Supplier Part Number: 490-16824-1-ND; RoHS: Yes; Category: Ceramic Capacitors; Stock: 605322; Pricing: 1=0.17, 10=0.117, 50=0.07, 100=0.0591, 500=0.04046, 1000=0.03579, 2500=0.03424, 5000=0.03112 (USD); Mounting Technology: Surface Mount; Pins: 2; Package Shape: Rectangular; Case/Package: 0805; Terminal Finish: Nickel; Min Operating Temperature: -55°C; Max Operating Temperature: 85°C; JESD-609 Code: e3; Value: 10uF; Capacitor Type: Ceramic; Package Style: SMTMeter; Packaging: Tape and Reel; Tolerance (fill in as +-): 10%; Rated DC Voltage (URdc): 25V; Temperature Characteristics Code: X5R; Termination: Wraparound; Length: 2mm; Width: 1.25mm; Height: 1.25mm; Reach SVHC Compliant: Yes; RoHS Compliant: Yes; ComponentLink1URL: https://datasheet.ciiva.com:443/pdfs/VipMasterIC/IC/MURE/MURE-S-A0004349797/MURE-S-A0004361627-1.pdf?src-supplier=IHS+Markit; ComponentLink1Description: https://datasheet.ciiva.com:443/pdfs/VipMasterIC/IC/MURE/MURE-S-A0004349797/MURE-S-A0004361627-1.pdf?src-supplier=IHS+Markit; ComponentLink2URL: http://www.mouser.com/ds/2/281/c02e-2905.pdf?src-supplier=Mouser; ComponentLink2Description: http://www.mouser.com/ds/2/281/c02e-2905.pdf?src-supplier=Mouser; ComponentLink3URL: https://datasheet.octopart.com/GRM21BR61E106KA73K-Murata-datasheet-149523495.pdf?src-supplier=Newark; ComponentLink3Description: https://datasheet.octopart.com/GRM21BR61E106KA73K-Murata-datasheet-149523495.pdf?src-supplier=Newark; ComponentLink4URL: https://datasheet.octopart.com/GRM21BR61E106KA73K-Murata-datasheet-99353849.pdf?src-supplier=Future+Electronics; ComponentLink4Description: https://datasheet.octopart.com/GRM21BR61E106KA73K-Murata-datasheet-99353849.pdf?src-supplier=Future+Electronics; ComponentLink5URL: http://search.murata.co.jp/Ceramy/image/img/A01X/G101/ENG/GRM21BR61E106KA73-01.pdf?src-supplier=Digi-Key; ComponentLink5Description: http://search.murata.co.jp/Ceramy/image/img/A01X/G101/ENG/GRM21BR61E106KA73-01.pdf?src-supplier=Digi-Key; ComponentLink6URL: https://search.murata.co.jp/Ceramy/image/img/A01X/G101/ENG/GRM21BR61E106KA73-01.pdf?src-supplier=Digi-Key; ComponentLink6Description: https://search.murata.co.jp/Ceramy/image/img/A01X/G101/ENG/GRM21BR61E106KA73-01.pdf?src-supplier=Digi-Key; ComponentLink7URL: https://datasheet.octopart.com/GRM21BR61E106KA73K-Murata-datasheet-165579666.pdf?src-supplier=TME; ComponentLink7Description: https://datasheet.octopart.com/GRM21BR61E106KA73K-Murata-datasheet-165579666.pdf?src-supplier=TME
footprint CAP_0805_1_4MM (Chip Capacitor, 2-Leads, Body 2.00x1.25mm, IPC Medium Density)
pins: 1, 2

## GRM188R61A226ME15D
designator C?, comment 22 uF 10V X5R 0603
CAP CER 22UF 10V X5R 0603; Manufacturer: Murata; Manufacturer Part Number: GRM188R61A226ME15D; Voltage Rating DC: 10 VDC; Tolerance: 20 %; Brand: Murata Electronics; Type: Voltage and Temperature Derating Recommended Product; Unit Weight: 0.000222 oz; Supplier 1: Digi-Key; Supplier Part Number 1: 490-10476-1-ND; Stock 1: 849458; Pricing 1: 1=0.33, 10=0.226, 50=0.1506, 100=0.1279, 500=0.0903, 1000=0.079 (USD); Product Category: Multilayer Ceramic Capacitors MLCC - SMD/SMT; RoHS: True; Capacitance: 22uF; Dielectric: X5R; Case Code - in: 0603; Case Code - mm: 1608; Height: 0.8 mm; Maximum Operating Temperature: + 85 C; Minimum Operating Temperature: - 55 C; Product: General Type MLCCs; Series: GRM; Packaging: Reel; Length: 1.6 mm; Package / Case: 0603 (1608 metric); Factory Pack Quantity: 4000; Termination Style: SMD/SMT; Width: 0.8 mm; ComponentLink1URL: http://www.farnell.com/datasheets/2047978.pdf?src-supplier=Element14; ComponentLink1Description: http://www.farnell.com/datasheets/2047978.pdf?src-supplier=Element14
footprint CAP_0603_1MM (Chip Capacitor, 2-Leads, Body 1.60x0.80mm, IPC Medium Density)
pins: 1, 2

## GRPB021VWVN-RC
designator H?, comment CONN HEADER VERT 2POS 2.54 MM
Conn Unshrouded Header HDR 2 POS 2.54 MM Solder ST Top Entry Thru-Hole; Manufacturer: Sullins; Manufacturer Part Number: GRPB021VWVN-RC; Number of Positions: 2; Pitch: 1.27mm; Supplier: Digi-Key; Supplier Part Number: S9014E-02-ND; RoHS: Yes; Category: Headers and Wire Housings; Stock: 123797; Pricing: 1=0.25, 10=0.21, 100=0.1615, 500=0.13662, 1000=0.11178, 5000=0.09936, 10000=0.09005 (USD); Mounting Technology: Through Hole; Contact Material: Brass; Contact Shape: Square; Contact Finish - Mating: GOLD; Insulation Material: Nylon; Min Operating Temperature: -40°C; Max Operating Temperature: 105°C; Number of Rows: 1; Termination: Solder; Connector Type: Header; Contact Type: Male Pin; Fastening Type: Pull; Series: -; Packaging: Bulk; RoHS Compliant: Yes; Flammability Rating: UL94 V-0; Lead Free: Lead Free; ComponentLink1URL: https://datasheet.ciiva.com/726/71-grpb-1vwvn-rc-10957-c-726648.pdf?src-supplier=Digi-Key; ComponentLink1Description: https://datasheet.ciiva.com/726/71-grpb-1vwvn-rc-10957-c-726648.pdf?src-supplier=Digi-Key
footprint 2-PIN_MALE_HEADER_01-IN (.025 SQ Post Terminal Strip Assembly, 1x2 Pins, Vertical, 2.54mm Pitch, Male)
pins: 1, 2

## HOLE_#4
designator MH?, comment #4 Hole  (no BOM)
footprint HOLE_#4
pins: 1

## LIS3DH
designator U?
MEMS digital output motion sensor: / ultra-low-power high-performance 3-axis "nano" accelerometer
footprint 16_QFN_LIS3DH (QFN, 16-Leads, Body 3.00x3.00mm, Pitch 0.50mm, Thermal Pad 1.25x2.25mm, IPC Medium Density)
pins: 1 Vdd_IO (power) "Power supply for I/O pins", 2 NC "Not connected", 3 NC "Not connected", 4 SCL/SPC (in) "I2C serial clock (SCL) / SPI serial port clock (SPC)", 5 GND (power) "0 V supply", 6 SDA/SDI/SDO (io) "I2C serial data (SDA) / SPI serial data input (SDI) / 3-wire interface serial data output (SDO)", 7 SDO/SA0 (out) "SPI serial data output (SDO) / I2C less significant bit of the device address (SA0)", 8 CS (in) "SPI enable / I2C/SPI mode selection: / 1: SPI idle mode / I2C communication enabled / 0: SPI communication mode / I2C disabled", 9 INT2 (out) "Inertial interrupt 2", 10 RES (in) "Connect to GND", 11 INT1 (out) "Inertial interrupt 1", 12 GND (power) "0 V supply", 13 ADC3 (in) "Analog-to-digital converter input 3", 14 Vdd (power) "Power supply", 15 ADC2 (in) "Analog-to-digital converter input 2", 16 ADC1 (in) "Analog-to-digital converter input 1"

## LQG15WZ1N9S02D
designator L?, comment 1.9nH 1A
Inductor Chip 1.9nH 0.3nH Tolerance 2-Pin 0402 Paper T/R; Manufacturer: Murata; Manufacturer Part Number: LQG15WZ1N9S02D; Supplier 1: Digi-Key; RoHS: Yes; Category: Fixed Inductors; Stock 1: 7252; Pricing 1: 1=0.14000, 10=0.12900, 25=0.11440, 50=0.09720, 100=0.08580, 250=0.07864, 500=0.07150, 1000=0.06006, 2500=0.05148 (USD); RoHS Compliant: Yes
footprint CAP_0402_1mm (1.00x0.5)
pins: 1, 2

## MAX30102EFD+T
designator U?
SENSOR OXIMETER/HEART RATE I2C; Manufacturer: Maxim; Throw Configuration: ANALOG CIRCUIT; Channels: 1; Max Supply Voltage: 2V; Min Supply Voltage: 1.7V; Nominal Supply Voltage: 1.8V; Supplier: Digi-Key; Supplier Part Number: MAX30102EFD+TDKR-ND; Manufacturer Part Number: MAX30102EFD+T; RoHS: Yes; Category: Sensors; Stock: 778; Pricing: 1=10.88, 10=10, 25=9.5856, 100=8.4455, 250=8.031, 500=7.51288, 1000=6.89113 (USD); Pins: 14; Package Shape: Rectangular; Min Operating Temperature: -40°C; Max Operating Temperature: 85°C; Package Style: GRID ARRAY, LOW PROFILE, FINE PITCHMeter; Surface Mount: Yes; Terminal Form: BUTT; Terminal Position: BOTTOM; Length: 5.6mm; Width: 3.3mm; Height - Seated (Max): 1.65mm; Terminal Pitch: 0.8mm; Reach SVHC Compliant: Yes; Temperature Grade: INDUSTRIAL; RoHS Compliant: Yes; ComponentLink1URL: https://datasheet.ciiva.com:443/pdfs/VipMasterIC/IC/MAXM/MAXM-S-A0006604198/MAXM-S-A0006604198-1.pdf?src-supplier=IHS+Markit; ComponentLink1Description: https://datasheet.ciiva.com:443/pdfs/VipMasterIC/IC/MAXM/MAXM-S-A0006604198/MAXM-S-A0006604198-1.pdf?src-supplier=IHS+Markit; ComponentLink2URL: https://datasheets.maximintegrated.com/en/ds/MAX30102.pdf?src-supplier=Digi-Key; ComponentLink2Description: https://datasheets.maximintegrated.com/en/ds/MAX30102.pdf?src-supplier=Digi-Key
footprint 14_SON_SPO2 (SON, 14-Leads, Body 5.60x3.30mm, Pitch 1.27mm, IPC Medium Density)
pins: 1 N.C. "No Connection. Connect to PCB pad for mechanical stability.", 2 SCL (in) "I2C Clock Input", 3 SDA (io) "I2C Data, Bidirectional (Open-Drain)", 4 PGND (power) "Power Ground of the LED Driver Blocks", 5 N.C. "No Connection. Connect to PCB pad for mechanical stability.", 6 N.C. "No Connection. Connect to PCB pad for mechanical stability.", 7 N.C. "No Connection. Connect to PCB pad for mechanical stability.", 8 N.C. "No Connection. Connect to PCB pad for mechanical stability.", 9 VLED+ (power) "LED Power Supply (anode connection). Use a bypass capacitor to PGND for best performance.", 10 VLED+ (power) "LED Power Supply (anode connection). Use a bypass capacitor to PGND for best performance.", 11 VDD (power) "Analog Power Supply Input. Use a bypass capacitor to GND for best performance.", 12 GND (power) "Analog Ground", 13 ~{INT} (in) "Active-Low Interrupt (Open-Drain). Connect to an external voltage with a pullup resistor.", 14 N.C. "No Connection. Connect to PCB pad for mechanical stability."

## PRPC003SAAN-RC
designator H?, comment 0.1" Header
CONN HEADER VERT 3POS 2.54MM; Manufacturer: Sullins; Manufacturer Part Number: PRPC003SAAN-RC; Connector Type: Header, Unshrouded, Breakaway; Number of Positions: 3; Number of Positions Loaded: All; Pitch: 0.100" (2.54mm); Online Catalog: 0.100" (2.54mm) Pitch Connector Headers; Other Names: S9510E-03  S9510E-03-ND; Supplier 1: Digi-Key; Stock 1: 19067; Pricing 1: 1=0.12, 10=0.109, 25=0.0812, 50=0.0696, 100=0.0673, 250=0.058, 500=0.0557 (USD); Standard Package: 1; Category: Connectors, Interconnects; Family: Rectangular Connectors - Headers, Male Pins; Series: -; Packaging: Bulk; Contact Type: Male Pin; Number of Rows: 1; Row Spacing: -; Contact Mating Length: 0.230" (5.84mm); Mounting Type: Through Hole; Termination: Solder; Fastening Type: -; Features: -; Contact Finish: Gold; Contact Finish Thickness: Flash; Color: Black; ComponentLink1URL: https://media.digikey.com/PDF/Data%20Sheets/Sullins%20PDFs/xRxCzzzSxxN-RC_ST_11635-B.pdf?src-supplier=Digi-Key; ComponentLink1Description: https://media.digikey.com/PDF/Data%20Sheets/Sullins%20PDFs/xRxCzzzSxxN-RC_ST_11635-B.pdf?src-supplier=Digi-Key; Supplier Part Number 1: S1011EC-03-ND
footprint 3-PIN_MALE_HEADER_01-IN (.025 SQ Post Terminal Strip Assembly, 1x3 Pins, Vertical, 2.54mm Pitch, Male)
pins: 1, 2, 3